# EAGLE library part ER-OLED066 (library ER-OLED)
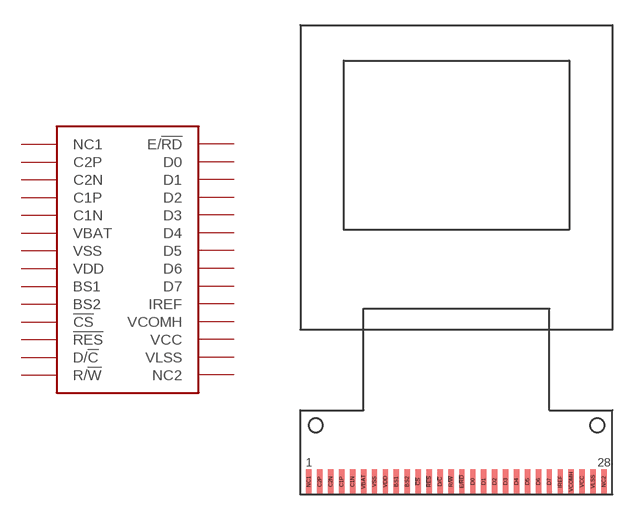
[diagram p1: symbol with the pads of ER-OLED066; footprint ER-OLED066]

Designator prefix -

## ER-OLED066  [ER-OLED066]
!CS  !CS
!RES  !RES
BS1  BS1
BS2  BS2
C1N  C1N
C1P  C1P
C2N  C2N
C2P  C2P
D0  D0
D1  D1
D2  D2
D3  D3
D4  D4
D5  D5
D6  D6
D7  D7
D/!C  D/!C
E/!RD  E/!RD
IREF  IREF
NC1  NC1
NC2  NC2
R/!W  R/!W
VBAT  VBAT
VCC  VCC
VCOMH  VCOMH
VDD  VDD
VLSS  VLSS
VSS  VSS

## Footprint ER-OLED066 (pad centres in mm)
smd 0.32 x 1.5: !CS -2.275,0.75; !RES -1.625,0.75; BS1 -3.575,0.75; BS2 -2.925,0.75; C1N -6.175,0.75; C1P -6.825,0.75; C2N -7.475,0.75; C2P -8.125,0.75; D0 0.975,0.75; D1 1.625,0.75; D2 2.275,0.75; D3 2.925,0.75; D4 3.575,0.75; D5 4.225,0.75; D6 4.875,0.75; D7 5.525,0.75; D/!C -0.975,0.75; E/!RD 0.325,0.75; IREF 6.175,0.75; NC1 -8.775,0.75; NC2 8.775,0.75; R/!W -0.325,0.75; VBAT -5.525,0.75; VCC 7.475,0.75; VCOMH 6.825,0.75; VDD -4.225,0.75; VLSS 8.125,0.75; VSS -4.875,0.75